# Altium integrated library Microchip Power Management Line Regulator.IntLib: 1169 symbols (part 2 of 31)
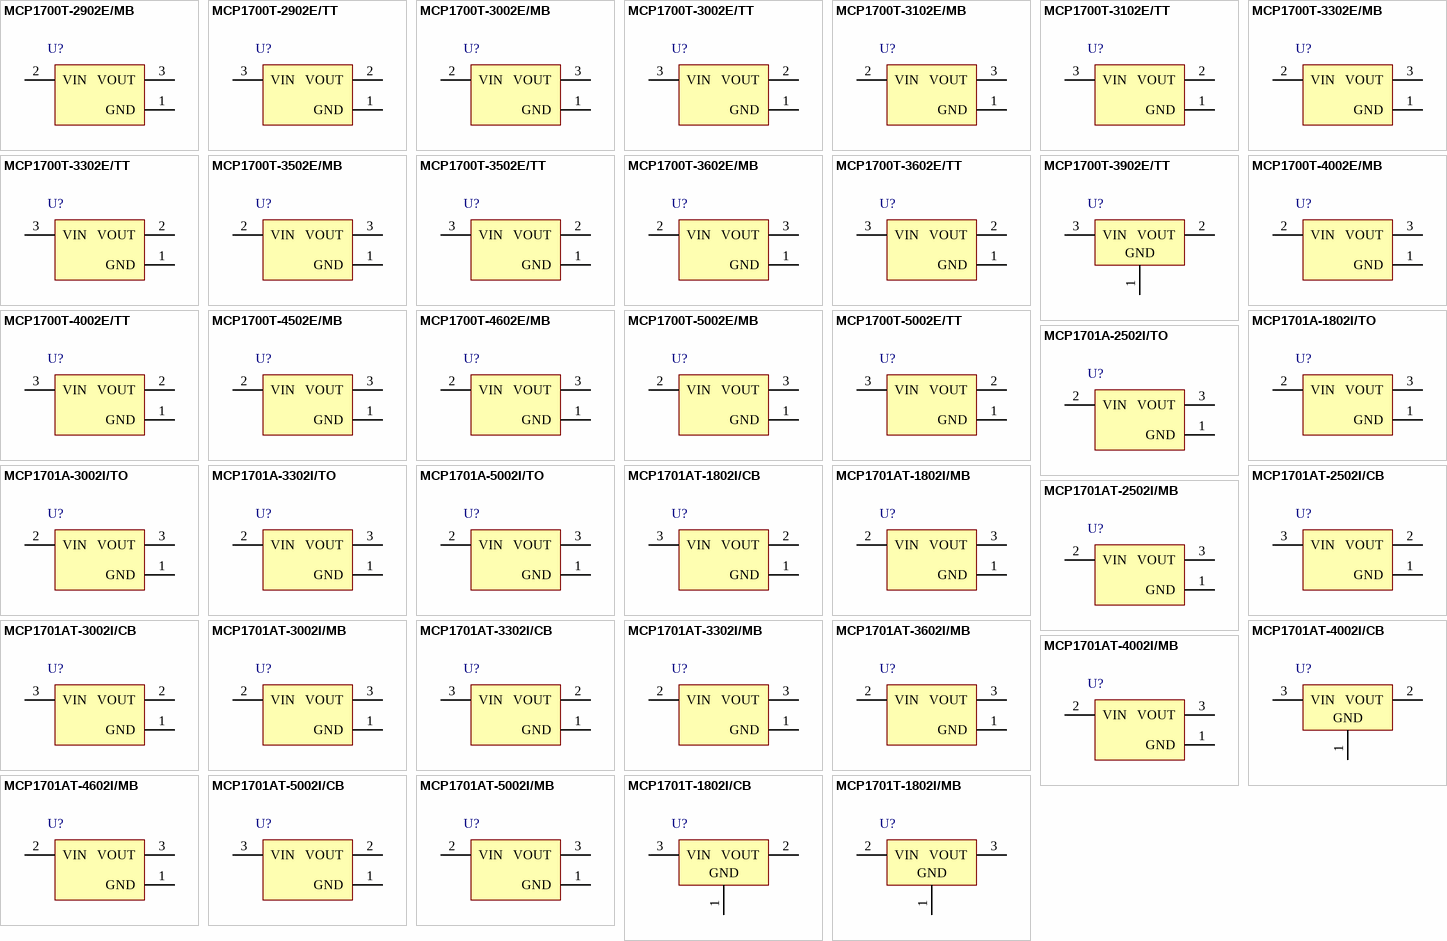
[diagram p30: symbols MCP1700T-2902E/MB to MCP1701T-1802I/MB]

## MCP1700T-2902E/MB
designator U?
Low Quiescent Current LDO, 3-Pin SOT-89, Extended Temperature, Tape and Reel; Manufacturer: Microchip; PartNumber: MCP1700T-2902E/MB; DatasheetVersion: revB, Feb-2007; PackageVersion: revBB, Aug-2009; PackageReference: SOT-89-MB3; PackageDescription: 3-Lead Plastic Small Outline Transistor Header (MB) [SOT-89]; Supplier 1: Digi-Key; Supplier Part Number 1: MCP1700T-2902E/MB-ND; Supplier 2: Mouser; Supplier Part Number 2: 579-MCP1700T-2902EMB; Mounting Technology: Surface Mount; Code_IPC: SOT89; ComponentLink1Description: Manufacturer URL; ComponentLink1URL: http://www.microchip.com/; ComponentLink2Description: Datasheet; ComponentLink2URL: http://ww1.microchip.com/downloads/en/DeviceDoc/21826b.pdf; ComponentLink3Description: Package Specification; ComponentLink3URL: http://www.microchip.com/stellent/groups/techpub_sg/documents/packagingspec/en012702.pdf
footprint SOT-89-MB3_N (SOT89, 3-Leads, Body 4.5x2.4 mm, Pitch 1.5mm, Lead Span 4.1mm, IPC Medium Density)
footprint SOT-89-MB3_L (SOT89, 3-Leads, Body 4.5x2.4 mm, Pitch 1.5mm, Lead Span 4.1mm, IPC High Density)
footprint SOT-89-MB3_M (SOT89, 3-Leads, Body 4.5x2.4 mm, Pitch 1.5mm, Lead Span 4.1mm, IPC Low Density)
pins: 1 GND (power), 2 VIN (power), 3 VOUT (power)

## MCP1700T-2902E/TT
designator U?
Low Quiescent Current LDO, 3-Pin SOT-23, Extended Temperature, Tape and Reel; Manufacturer: Microchip; PartNumber: MCP1700T-2902E/TT; DatasheetVersion: revB, Feb-2007; PackageVersion: revBB, Aug-2009; PackageReference: SOT-23-TT3; PackageDescription: 3-Lead Plastic Small Outline Transistor (TT) [SOT-23]; Supplier 1: Digi-Key; Supplier Part Number 1: MCP1700T-2902E/TT-ND; Supplier 2: Mouser; Supplier Part Number 2: 579-MCP1700T-2902ETT; Mounting Technology: Surface Mount; Code_IPC: SOT23-3; ComponentLink1Description: Manufacturer URL; ComponentLink1URL: http://www.microchip.com/; ComponentLink2Description: Datasheet; ComponentLink2URL: http://ww1.microchip.com/downloads/en/DeviceDoc/21826b.pdf; ComponentLink3Description: Package Specification; ComponentLink3URL: http://www.microchip.com/stellent/groups/techpub_sg/documents/packagingspec/en012702.pdf
footprint SOT-23-TT3_N (SOT23, 3-Leads, Body 2.9x1.3mm, Pitch 0.95mm, Lead Span 2.4mm, IPC Medium Density)
footprint SOT-23-TT3_L (SOT23, 3-Leads, Body 2.9x1.3mm, Pitch 0.95mm, Lead Span 2.4mm, IPC High Density)
footprint SOT-23-TT3_M (SOT23, 3-Leads, Body 2.9x1.3mm, Pitch 0.95mm, Lead Span 2.4mm, IPC Low Density)
pins: 1 GND (power), 2 VOUT (power), 3 VIN (power)

## MCP1700T-3002E/MB
designator U?
Low Quiescent Current LDO, 3-Pin SOT-89, Extended Temperature, Tape and Reel; Manufacturer: Microchip; PartNumber: MCP1700T-3002E/MB; DatasheetVersion: revB, Feb-2007; PackageVersion: revBB, Aug-2009; PackageReference: SOT-89-MB3; PackageDescription: 3-Lead Plastic Small Outline Transistor Header (MB) [SOT-89]; Supplier 1: Digi-Key; Supplier Part Number 1: MCP1700T-3002E/MBTR-ND; Supplier 2: Digi-Key; Supplier Part Number 2: MCP1700T-3002E/MBCT-ND; Supplier 3: Digi-Key; Supplier Part Number 3: MCP1700T-3002E/MBDKR-ND; Supplier 4: Newark; Supplier Part Number 4: 88H9814; Supplier 5: Mouser; Supplier Part Number 5: 579-MCP1700T3002E/MB; Mounting Technology: Surface Mount; Code_IPC: SOT89; ComponentLink1Description: Manufacturer URL; ComponentLink1URL: http://www.microchip.com/; ComponentLink2Description: Datasheet; ComponentLink2URL: http://ww1.microchip.com/downloads/en/DeviceDoc/21826b.pdf; ComponentLink3Description: Package Specification; ComponentLink3URL: http://www.microchip.com/stellent/groups/techpub_sg/documents/packagingspec/en012702.pdf
footprint SOT-89-MB3_N (SOT89, 3-Leads, Body 4.5x2.4 mm, Pitch 1.5mm, Lead Span 4.1mm, IPC Medium Density)
footprint SOT-89-MB3_L (SOT89, 3-Leads, Body 4.5x2.4 mm, Pitch 1.5mm, Lead Span 4.1mm, IPC High Density)
footprint SOT-89-MB3_M (SOT89, 3-Leads, Body 4.5x2.4 mm, Pitch 1.5mm, Lead Span 4.1mm, IPC Low Density)
pins: 1 GND (power), 2 VIN (power), 3 VOUT (power)

## MCP1700T-3002E/TT
designator U?
Low Quiescent Current LDO, 3-Pin SOT-23, Extended Temperature, Tape and Reel; Manufacturer: Microchip; PartNumber: MCP1700T-3002E/TT; DatasheetVersion: revB, Feb-2007; PackageVersion: revBB, Aug-2009; PackageReference: SOT-23-TT3; PackageDescription: 3-Lead Plastic Small Outline Transistor (TT) [SOT-23]; Supplier 1: Digi-Key; Supplier Part Number 1: MCP1700T-3002E/TTTR-ND; Supplier 2: Digi-Key; Supplier Part Number 2: MCP1700T-3002E/TTCT-ND; Supplier 3: Digi-Key; Supplier Part Number 3: MCP1700T-3002E/TTDKR-ND; Supplier 4: Farnell; Supplier Part Number 4: 1331482; Supplier 5: Farnell; Supplier Part Number 5: 1331482RL; Supplier 6: Newark; Supplier Part Number 6: 84R5176; Supplier 7: Newark; Supplier Part Number 7: 88H9815; Supplier 8: Mouser; Supplier Part Number 8: 579-MCP1700T3002E/TT; Mounting Technology: Surface Mount; Code_IPC: SOT23-3; ComponentLink1Description: Manufacturer URL; ComponentLink1URL: http://www.microchip.com/; ComponentLink2Description: Datasheet; ComponentLink2URL: http://ww1.microchip.com/downloads/en/DeviceDoc/21826b.pdf; ComponentLink3Description: Package Specification; ComponentLink3URL: http://www.microchip.com/stellent/groups/techpub_sg/documents/packagingspec/en012702.pdf
footprint SOT-23-TT3_N (SOT23, 3-Leads, Body 2.9x1.3mm, Pitch 0.95mm, Lead Span 2.4mm, IPC Medium Density)
footprint SOT-23-TT3_L (SOT23, 3-Leads, Body 2.9x1.3mm, Pitch 0.95mm, Lead Span 2.4mm, IPC High Density)
footprint SOT-23-TT3_M (SOT23, 3-Leads, Body 2.9x1.3mm, Pitch 0.95mm, Lead Span 2.4mm, IPC Low Density)
pins: 1 GND (power), 2 VOUT (power), 3 VIN (power)

## MCP1700T-3102E/MB
designator U?
Low Quiescent Current LDO, 3-Pin SOT-89, Extended Temperature, Tape and Reel; Manufacturer: Microchip; PartNumber: MCP1700T-3102E/MB; DatasheetVersion: revB, Feb-2007; PackageVersion: revBB, Aug-2009; PackageReference: SOT-89-MB3; PackageDescription: 3-Lead Plastic Small Outline Transistor Header (MB) [SOT-89]; Supplier 1: Digi-Key; Supplier Part Number 1: MCP1700T-3102E/MB-ND; Supplier 2: Mouser; Supplier Part Number 2: 579-MCP1700T-3102EMB; Mounting Technology: Surface Mount; Code_IPC: SOT89; ComponentLink1Description: Manufacturer URL; ComponentLink1URL: http://www.microchip.com/; ComponentLink2Description: Datasheet; ComponentLink2URL: http://ww1.microchip.com/downloads/en/DeviceDoc/21826b.pdf; ComponentLink3Description: Package Specification; ComponentLink3URL: http://www.microchip.com/stellent/groups/techpub_sg/documents/packagingspec/en012702.pdf
footprint SOT-89-MB3_N (SOT89, 3-Leads, Body 4.5x2.4 mm, Pitch 1.5mm, Lead Span 4.1mm, IPC Medium Density)
footprint SOT-89-MB3_L (SOT89, 3-Leads, Body 4.5x2.4 mm, Pitch 1.5mm, Lead Span 4.1mm, IPC High Density)
footprint SOT-89-MB3_M (SOT89, 3-Leads, Body 4.5x2.4 mm, Pitch 1.5mm, Lead Span 4.1mm, IPC Low Density)
pins: 1 GND (power), 2 VIN (power), 3 VOUT (power)

## MCP1700T-3102E/TT
designator U?
Low Quiescent Current LDO, 3-Pin SOT-23, Extended Temperature, Tape and Reel; Manufacturer: Microchip; PartNumber: MCP1700T-3102E/TT; DatasheetVersion: revB, Feb-2007; PackageVersion: revBB, Aug-2009; PackageReference: SOT-23-TT3; PackageDescription: 3-Lead Plastic Small Outline Transistor (TT) [SOT-23]; Supplier 1: Digi-Key; Supplier Part Number 1: MCP1700T-3102E/TT-ND; Supplier 2: Newark; Supplier Part Number 2: 23T2762; Supplier 3: Mouser; Supplier Part Number 3: 579-MCP1700T-3102ETT; Mounting Technology: Surface Mount; Code_IPC: SOT23-3; ComponentLink1Description: Manufacturer URL; ComponentLink1URL: http://www.microchip.com/; ComponentLink2Description: Datasheet; ComponentLink2URL: http://ww1.microchip.com/downloads/en/DeviceDoc/21826b.pdf; ComponentLink3Description: Package Specification; ComponentLink3URL: http://www.microchip.com/stellent/groups/techpub_sg/documents/packagingspec/en012702.pdf
footprint SOT-23-TT3_N (SOT23, 3-Leads, Body 2.9x1.3mm, Pitch 0.95mm, Lead Span 2.4mm, IPC Medium Density)
footprint SOT-23-TT3_L (SOT23, 3-Leads, Body 2.9x1.3mm, Pitch 0.95mm, Lead Span 2.4mm, IPC High Density)
footprint SOT-23-TT3_M (SOT23, 3-Leads, Body 2.9x1.3mm, Pitch 0.95mm, Lead Span 2.4mm, IPC Low Density)
pins: 1 GND (power), 2 VOUT (power), 3 VIN (power)

## MCP1700T-3302E/MB
designator U?
Low Quiescent Current LDO, 3-Pin SOT-89, Extended Temperature, Tape and Reel; Manufacturer: Microchip; PartNumber: MCP1700T-3302E/MB; DatasheetVersion: revB, Feb-2007; PackageVersion: revBB, Aug-2009; PackageReference: SOT-89-MB3; PackageDescription: 3-Lead Plastic Small Outline Transistor Header (MB) [SOT-89]; Supplier 1: Digi-Key; Supplier Part Number 1: MCP1700T3302EMBTR-ND; Supplier 2: Digi-Key; Supplier Part Number 2: MCP1700T3302EMBCT-ND; Supplier 3: Digi-Key; Supplier Part Number 3: MCP1700T3302EMBDKR-ND; Supplier 4: Farnell; Supplier Part Number 4: 1439380; Supplier 5: Farnell; Supplier Part Number 5: 1439380RL; Supplier 6: Newark; Supplier Part Number 6: 88H9816; Supplier 7: Mouser; Supplier Part Number 7: 579-MCP1700T3302E/MB; Mounting Technology: Surface Mount; Code_IPC: SOT89; ComponentLink1Description: Manufacturer URL; ComponentLink1URL: http://www.microchip.com/; ComponentLink2Description: Datasheet; ComponentLink2URL: http://ww1.microchip.com/downloads/en/DeviceDoc/21826b.pdf; ComponentLink3Description: Package Specification; ComponentLink3URL: http://www.microchip.com/stellent/groups/techpub_sg/documents/packagingspec/en012702.pdf
footprint SOT-89-MB3_N (SOT89, 3-Leads, Body 4.5x2.4 mm, Pitch 1.5mm, Lead Span 4.1mm, IPC Medium Density)
footprint SOT-89-MB3_L (SOT89, 3-Leads, Body 4.5x2.4 mm, Pitch 1.5mm, Lead Span 4.1mm, IPC High Density)
footprint SOT-89-MB3_M (SOT89, 3-Leads, Body 4.5x2.4 mm, Pitch 1.5mm, Lead Span 4.1mm, IPC Low Density)
pins: 1 GND (power), 2 VIN (power), 3 VOUT (power)

## MCP1700T-3302E/TT
designator U?
Low Quiescent Current LDO, 3-Pin SOT-23, Extended Temperature, Tape and Reel; Manufacturer: Microchip; PartNumber: MCP1700T-3302E/TT; DatasheetVersion: revB, Feb-2007; PackageVersion: revBB, Aug-2009; PackageReference: SOT-23-TT3; PackageDescription: 3-Lead Plastic Small Outline Transistor (TT) [SOT-23]; Supplier 1: Digi-Key; Supplier Part Number 1: MCP1700T3302ETTTR-ND; Supplier 2: Digi-Key; Supplier Part Number 2: MCP1700T3302ETTCT-ND; Supplier 3: Digi-Key; Supplier Part Number 3: MCP1700T3302ETTDKR-ND; Supplier 4: Farnell; Supplier Part Number 4: 1296592; Supplier 5: Farnell; Supplier Part Number 5: 1296592RL; Supplier 6: Farnell; Supplier Part Number 6: 2133944; Supplier 7: Newark; Supplier Part Number 7: 88H9817; Supplier 8: Newark; Supplier Part Number 8: 23R8107; Supplier 9: Mouser; Supplier Part Number 9: 579-MCP1700T3302E/TT; Mounting Technology: Surface Mount; Code_IPC: SOT23-3; ComponentLink1Description: Manufacturer URL; ComponentLink1URL: http://www.microchip.com/; ComponentLink2Description: Datasheet; ComponentLink2URL: http://ww1.microchip.com/downloads/en/DeviceDoc/21826b.pdf; ComponentLink3Description: Package Specification; ComponentLink3URL: http://www.microchip.com/stellent/groups/techpub_sg/documents/packagingspec/en012702.pdf
footprint SOT-23-TT3_N (SOT23, 3-Leads, Body 2.9x1.3mm, Pitch 0.95mm, Lead Span 2.4mm, IPC Medium Density)
footprint SOT-23-TT3_L (SOT23, 3-Leads, Body 2.9x1.3mm, Pitch 0.95mm, Lead Span 2.4mm, IPC High Density)
footprint SOT-23-TT3_M (SOT23, 3-Leads, Body 2.9x1.3mm, Pitch 0.95mm, Lead Span 2.4mm, IPC Low Density)
pins: 1 GND (power), 2 VOUT (power), 3 VIN (power)

## MCP1700T-3502E/MB
designator U?
Low Quiescent Current LDO, 3-Pin SOT-89, Extended Temperature, Tape and Reel; Manufacturer: Microchip; PartNumber: MCP1700T-3502E/MB; DatasheetVersion: revB, Feb-2007; PackageVersion: revBB, Aug-2009; PackageReference: SOT-89-MB3; PackageDescription: 3-Lead Plastic Small Outline Transistor Header (MB) [SOT-89]; Supplier 1: Digi-Key; Supplier Part Number 1: MCP1700T-3502E/MB-ND; Supplier 2: Mouser; Supplier Part Number 2: 579-MCP1700T-3502EMB; Mounting Technology: Surface Mount; Code_IPC: SOT89; ComponentLink1Description: Manufacturer URL; ComponentLink1URL: http://www.microchip.com/; ComponentLink2Description: Datasheet; ComponentLink2URL: http://ww1.microchip.com/downloads/en/DeviceDoc/21826b.pdf; ComponentLink3Description: Package Specification; ComponentLink3URL: http://www.microchip.com/stellent/groups/techpub_sg/documents/packagingspec/en012702.pdf
footprint SOT-89-MB3_N (SOT89, 3-Leads, Body 4.5x2.4 mm, Pitch 1.5mm, Lead Span 4.1mm, IPC Medium Density)
footprint SOT-89-MB3_L (SOT89, 3-Leads, Body 4.5x2.4 mm, Pitch 1.5mm, Lead Span 4.1mm, IPC High Density)
footprint SOT-89-MB3_M (SOT89, 3-Leads, Body 4.5x2.4 mm, Pitch 1.5mm, Lead Span 4.1mm, IPC Low Density)
pins: 1 GND (power), 2 VIN (power), 3 VOUT (power)

## MCP1700T-3502E/TT
designator U?
Low Quiescent Current LDO, 3-Pin SOT-23, Extended Temperature, Tape and Reel; Manufacturer: Microchip; PartNumber: MCP1700T-3502E/TT; DatasheetVersion: revB, Feb-2007; PackageVersion: revBB, Aug-2009; PackageReference: SOT-23-TT3; PackageDescription: 3-Lead Plastic Small Outline Transistor (TT) [SOT-23]; Supplier 1: Digi-Key; Supplier Part Number 1: MCP1700T-3502E/TT-ND; Supplier 2: Mouser; Supplier Part Number 2: 579-MCP1700T-3502ETT; Mounting Technology: Surface Mount; Code_IPC: SOT23-3; ComponentLink1Description: Manufacturer URL; ComponentLink1URL: http://www.microchip.com/; ComponentLink2Description: Datasheet; ComponentLink2URL: http://ww1.microchip.com/downloads/en/DeviceDoc/21826b.pdf; ComponentLink3Description: Package Specification; ComponentLink3URL: http://www.microchip.com/stellent/groups/techpub_sg/documents/packagingspec/en012702.pdf
footprint SOT-23-TT3_N (SOT23, 3-Leads, Body 2.9x1.3mm, Pitch 0.95mm, Lead Span 2.4mm, IPC Medium Density)
footprint SOT-23-TT3_L (SOT23, 3-Leads, Body 2.9x1.3mm, Pitch 0.95mm, Lead Span 2.4mm, IPC High Density)
footprint SOT-23-TT3_M (SOT23, 3-Leads, Body 2.9x1.3mm, Pitch 0.95mm, Lead Span 2.4mm, IPC Low Density)
pins: 1 GND (power), 2 VOUT (power), 3 VIN (power)

## MCP1700T-3602E/MB
designator U?
Low Quiescent Current LDO, 3-Pin SOT-89, Extended Temperature, Tape and Reel; Manufacturer: Microchip; PartNumber: MCP1700T-3602E/MB; DatasheetVersion: revB, Feb-2007; PackageVersion: revBB, Aug-2009; PackageReference: SOT-89-MB3; PackageDescription: 3-Lead Plastic Small Outline Transistor Header (MB) [SOT-89]; Supplier 1: Digi-Key; Supplier Part Number 1: MCP1700T-3602E/MB-ND; Supplier 2: Mouser; Supplier Part Number 2: 579-MCP1700T-3602EMB; Mounting Technology: Surface Mount; Code_IPC: SOT89; ComponentLink1Description: Manufacturer URL; ComponentLink1URL: http://www.microchip.com/; ComponentLink2Description: Datasheet; ComponentLink2URL: http://ww1.microchip.com/downloads/en/DeviceDoc/21826b.pdf; ComponentLink3Description: Package Specification; ComponentLink3URL: http://www.microchip.com/stellent/groups/techpub_sg/documents/packagingspec/en012702.pdf
footprint SOT-89-MB3_N (SOT89, 3-Leads, Body 4.5x2.4 mm, Pitch 1.5mm, Lead Span 4.1mm, IPC Medium Density)
footprint SOT-89-MB3_L (SOT89, 3-Leads, Body 4.5x2.4 mm, Pitch 1.5mm, Lead Span 4.1mm, IPC High Density)
footprint SOT-89-MB3_M (SOT89, 3-Leads, Body 4.5x2.4 mm, Pitch 1.5mm, Lead Span 4.1mm, IPC Low Density)
pins: 1 GND (power), 2 VIN (power), 3 VOUT (power)

## MCP1700T-3602E/TT
designator U?
Low Quiescent Current LDO, 3-Pin SOT-23, Extended Temperature, Tape and Reel; Manufacturer: Microchip; PartNumber: MCP1700T-3602E/TT; DatasheetVersion: revB, Feb-2007; PackageVersion: revBB, Aug-2009; PackageReference: SOT-23-TT3; PackageDescription: 3-Lead Plastic Small Outline Transistor (TT) [SOT-23]; Supplier 1: Digi-Key; Supplier Part Number 1: MCP1700T-3602E/TT-ND; Supplier 2: Mouser; Supplier Part Number 2: 579-MCP1700T-3602ETT; Mounting Technology: Surface Mount; Code_IPC: SOT23-3; ComponentLink1Description: Manufacturer URL; ComponentLink1URL: http://www.microchip.com/; ComponentLink2Description: Datasheet; ComponentLink2URL: http://ww1.microchip.com/downloads/en/DeviceDoc/21826b.pdf; ComponentLink3Description: Package Specification; ComponentLink3URL: http://www.microchip.com/stellent/groups/techpub_sg/documents/packagingspec/en012702.pdf
footprint SOT-23-TT3_N (SOT23, 3-Leads, Body 2.9x1.3mm, Pitch 0.95mm, Lead Span 2.4mm, IPC Medium Density)
footprint SOT-23-TT3_L (SOT23, 3-Leads, Body 2.9x1.3mm, Pitch 0.95mm, Lead Span 2.4mm, IPC High Density)
footprint SOT-23-TT3_M (SOT23, 3-Leads, Body 2.9x1.3mm, Pitch 0.95mm, Lead Span 2.4mm, IPC Low Density)
pins: 1 GND (power), 2 VOUT (power), 3 VIN (power)

## MCP1700T-3902E/TT
designator U?
Low Quiescent Current LDO, -40 to 125 degC, 3-pin SOT-23 (TT3), Tape and Reel; Manufacturer: Microchip; PartNumber: MCP1700T-3902E/TT; DatasheetVersion: Rev. B; PackageVersion: C04-104B; PackageReference: SOT-23-TT3; PackageDescription: 3-Lead Plastic Small Outline Transistor, 2.9 x 1.3 mm Body, 0.95 mm Pitch; Mounting Technology: Surface Mount; ComponentLink1Description: Manufacturer URL; ComponentLink1URL: http://www.microchip.com; ComponentLink2Description: Datasheet; ComponentLink2URL: http://ww1.microchip.com/downloads/en/DeviceDoc/21826b.pdf; ComponentLink3Description: Package Specification; ComponentLink3URL: http://www.microchip.com/stellent/groups/techpub_sg/documents/packagingspec/en012702.pdf; ComponentLink4Description: Product URL; ComponentLink4URL: http://www.microchip.com/MCP1700
footprint MCHP-SOT-23-TT3_N (SOT23, 3-Leads, Body 2.86x1.28mm, Pitch 0.95mm, IPC Medium Density)
footprint MCHP-SOT-23-TT3_L (SOT23, 3-Leads, Body 2.86x1.28mm, Pitch 0.95mm, IPC High Density)
footprint MCHP-SOT-23-TT3_M (SOT23, 3-Leads, Body 2.86x1.28mm, Pitch 0.95mm, IPC Low Density)
pins: 1 GND (power) "Ground Terminal", 2 VOUT (power) "Regulated Output Voltage", 3 VIN (power) "Unregulated Input Voltage"

## MCP1700T-4002E/MB
designator U?
Low Quiescent Current LDO, 3-Pin SOT-89, Extended Temperature, Tape and Reel; Manufacturer: Microchip; PartNumber: MCP1700T-4002E/MB; DatasheetVersion: revB, Feb-2007; PackageVersion: revBB, Aug-2009; PackageReference: SOT-89-MB3; PackageDescription: 3-Lead Plastic Small Outline Transistor Header (MB) [SOT-89]; Supplier 1: Digi-Key; Supplier Part Number 1: MCP1700T-4002E/MB-ND; Supplier 2: Mouser; Supplier Part Number 2: 579-MCP1700T-4002EMB; Mounting Technology: Surface Mount; Code_IPC: SOT89; ComponentLink1Description: Manufacturer URL; ComponentLink1URL: http://www.microchip.com/; ComponentLink2Description: Datasheet; ComponentLink2URL: http://ww1.microchip.com/downloads/en/DeviceDoc/21826b.pdf; ComponentLink3Description: Package Specification; ComponentLink3URL: http://www.microchip.com/stellent/groups/techpub_sg/documents/packagingspec/en012702.pdf
footprint SOT-89-MB3_N (SOT89, 3-Leads, Body 4.5x2.4 mm, Pitch 1.5mm, Lead Span 4.1mm, IPC Medium Density)
footprint SOT-89-MB3_L (SOT89, 3-Leads, Body 4.5x2.4 mm, Pitch 1.5mm, Lead Span 4.1mm, IPC High Density)
footprint SOT-89-MB3_M (SOT89, 3-Leads, Body 4.5x2.4 mm, Pitch 1.5mm, Lead Span 4.1mm, IPC Low Density)
pins: 1 GND (power), 2 VIN (power), 3 VOUT (power)

## MCP1700T-4002E/TT
designator U?
Low Quiescent Current LDO, 3-Pin SOT-23, Extended Temperature, Tape and Reel; Manufacturer: Microchip; PartNumber: MCP1700T-4002E/TT; DatasheetVersion: revB, Feb-2007; PackageVersion: revBB, Aug-2009; PackageReference: SOT-23-TT3; PackageDescription: 3-Lead Plastic Small Outline Transistor (TT) [SOT-23]; Supplier 1: Digi-Key; Supplier Part Number 1: MCP1700T-4002E/TT-ND; Supplier 2: Mouser; Supplier Part Number 2: 579-MCP1700T-4002ETT; Mounting Technology: Surface Mount; Code_IPC: SOT23-3; ComponentLink1Description: Manufacturer URL; ComponentLink1URL: http://www.microchip.com/; ComponentLink2Description: Datasheet; ComponentLink2URL: http://ww1.microchip.com/downloads/en/DeviceDoc/21826b.pdf; ComponentLink3Description: Package Specification; ComponentLink3URL: http://www.microchip.com/stellent/groups/techpub_sg/documents/packagingspec/en012702.pdf
footprint SOT-23-TT3_N (SOT23, 3-Leads, Body 2.9x1.3mm, Pitch 0.95mm, Lead Span 2.4mm, IPC Medium Density)
footprint SOT-23-TT3_L (SOT23, 3-Leads, Body 2.9x1.3mm, Pitch 0.95mm, Lead Span 2.4mm, IPC High Density)
footprint SOT-23-TT3_M (SOT23, 3-Leads, Body 2.9x1.3mm, Pitch 0.95mm, Lead Span 2.4mm, IPC Low Density)
pins: 1 GND (power), 2 VOUT (power), 3 VIN (power)

## MCP1700T-4502E/MB
designator U?
Low Quiescent Current LDO, 3-Pin SOT-89, Extended Temperature, Tape and Reel; Manufacturer: Microchip; PartNumber: MCP1700T-4502E/MB; DatasheetVersion: revB, Feb-2007; PackageVersion: revBB, Aug-2009; PackageReference: SOT-89-MB3; PackageDescription: 3-Lead Plastic Small Outline Transistor Header (MB) [SOT-89]; Supplier 1: Digi-Key; Supplier Part Number 1: MCP1700T-4502E/MB-ND; Supplier 2: Mouser; Supplier Part Number 2: 579-MCP1700T-4502EMB; Mounting Technology: Surface Mount; Code_IPC: SOT89; ComponentLink1Description: Manufacturer URL; ComponentLink1URL: http://www.microchip.com/; ComponentLink2Description: Datasheet; ComponentLink2URL: http://ww1.microchip.com/downloads/en/DeviceDoc/21826b.pdf; ComponentLink3Description: Package Specification; ComponentLink3URL: http://www.microchip.com/stellent/groups/techpub_sg/documents/packagingspec/en012702.pdf
footprint SOT-89-MB3_N (SOT89, 3-Leads, Body 4.5x2.4 mm, Pitch 1.5mm, Lead Span 4.1mm, IPC Medium Density)
footprint SOT-89-MB3_L (SOT89, 3-Leads, Body 4.5x2.4 mm, Pitch 1.5mm, Lead Span 4.1mm, IPC High Density)
footprint SOT-89-MB3_M (SOT89, 3-Leads, Body 4.5x2.4 mm, Pitch 1.5mm, Lead Span 4.1mm, IPC Low Density)
pins: 1 GND (power), 2 VIN (power), 3 VOUT (power)

## MCP1700T-4602E/MB
designator U?
Low Quiescent Current LDO, 3-Pin SOT-89, Extended Temperature, Tape and Reel; Manufacturer: Microchip; PartNumber: MCP1700T-4602E/MB; DatasheetVersion: revB, Feb-2007; PackageVersion: revBB, Aug-2009; PackageReference: SOT-89-MB3; PackageDescription: 3-Lead Plastic Small Outline Transistor Header (MB) [SOT-89]; Supplier 1: Digi-Key; Supplier Part Number 1: MCP1700T-4602E/MB-ND; Supplier 2: Mouser; Supplier Part Number 2: 579-MCP1700T-4602EMB; Mounting Technology: Surface Mount; Code_IPC: SOT89; ComponentLink1Description: Manufacturer URL; ComponentLink1URL: http://www.microchip.com/; ComponentLink2Description: Datasheet; ComponentLink2URL: http://ww1.microchip.com/downloads/en/DeviceDoc/21826b.pdf; ComponentLink3Description: Package Specification; ComponentLink3URL: http://www.microchip.com/stellent/groups/techpub_sg/documents/packagingspec/en012702.pdf
footprint SOT-89-MB3_N (SOT89, 3-Leads, Body 4.5x2.4 mm, Pitch 1.5mm, Lead Span 4.1mm, IPC Medium Density)
footprint SOT-89-MB3_L (SOT89, 3-Leads, Body 4.5x2.4 mm, Pitch 1.5mm, Lead Span 4.1mm, IPC High Density)
footprint SOT-89-MB3_M (SOT89, 3-Leads, Body 4.5x2.4 mm, Pitch 1.5mm, Lead Span 4.1mm, IPC Low Density)
pins: 1 GND (power), 2 VIN (power), 3 VOUT (power)

## MCP1700T-5002E/MB
designator U?
Low Quiescent Current LDO, 3-Pin SOT-89, Extended Temperature, Tape and Reel; Manufacturer: Microchip; PartNumber: MCP1700T-5002E/MB; DatasheetVersion: revB, Feb-2007; PackageVersion: revBB, Aug-2009; PackageReference: SOT-89-MB3; PackageDescription: 3-Lead Plastic Small Outline Transistor Header (MB) [SOT-89]; Supplier 1: Digi-Key; Supplier Part Number 1: MCP1700T5002EMBTR-ND; Supplier 2: Digi-Key; Supplier Part Number 2: MCP1700T5002EMBCT-ND; Supplier 3: Digi-Key; Supplier Part Number 3: MCP1700T5002EMBDKR-ND; Supplier 4: Newark; Supplier Part Number 4: 88H9818; Supplier 5: Mouser; Supplier Part Number 5: 579-MCP1700T5002E/MB; Mounting Technology: Surface Mount; Code_IPC: SOT89; ComponentLink1Description: Manufacturer URL; ComponentLink1URL: http://www.microchip.com/; ComponentLink2Description: Datasheet; ComponentLink2URL: http://ww1.microchip.com/downloads/en/DeviceDoc/21826b.pdf; ComponentLink3Description: Package Specification; ComponentLink3URL: http://www.microchip.com/stellent/groups/techpub_sg/documents/packagingspec/en012702.pdf
footprint SOT-89-MB3_N (SOT89, 3-Leads, Body 4.5x2.4 mm, Pitch 1.5mm, Lead Span 4.1mm, IPC Medium Density)
footprint SOT-89-MB3_L (SOT89, 3-Leads, Body 4.5x2.4 mm, Pitch 1.5mm, Lead Span 4.1mm, IPC High Density)
footprint SOT-89-MB3_M (SOT89, 3-Leads, Body 4.5x2.4 mm, Pitch 1.5mm, Lead Span 4.1mm, IPC Low Density)
pins: 1 GND (power), 2 VIN (power), 3 VOUT (power)

## MCP1700T-5002E/TT
designator U?
Low Quiescent Current LDO, 3-Pin SOT-23, Extended Temperature, Tape and Reel; Manufacturer: Microchip; PartNumber: MCP1700T-5002E/TT; DatasheetVersion: revB, Feb-2007; PackageVersion: revBB, Aug-2009; PackageReference: SOT-23-TT3; PackageDescription: 3-Lead Plastic Small Outline Transistor (TT) [SOT-23]; Supplier 1: Digi-Key; Supplier Part Number 1: MCP1700T5002ETTTR-ND; Supplier 2: Digi-Key; Supplier Part Number 2: MCP1700T5002ETTCT-ND; Supplier 3: Digi-Key; Supplier Part Number 3: MCP1700T5002ETTDKR-ND; Supplier 4: Farnell; Supplier Part Number 4: 1296593; Supplier 5: Farnell; Supplier Part Number 5: 1296593RL; Supplier 6: Newark; Supplier Part Number 6: 88H9819; Supplier 7: Mouser; Supplier Part Number 7: 579-MCP1700T5002E/TT; Mounting Technology: Surface Mount; Code_IPC: SOT23-3; ComponentLink1Description: Manufacturer URL; ComponentLink1URL: http://www.microchip.com/; ComponentLink2Description: Datasheet; ComponentLink2URL: http://ww1.microchip.com/downloads/en/DeviceDoc/21826b.pdf; ComponentLink3Description: Package Specification; ComponentLink3URL: http://www.microchip.com/stellent/groups/techpub_sg/documents/packagingspec/en012702.pdf
footprint SOT-23-TT3_N (SOT23, 3-Leads, Body 2.9x1.3mm, Pitch 0.95mm, Lead Span 2.4mm, IPC Medium Density)
footprint SOT-23-TT3_L (SOT23, 3-Leads, Body 2.9x1.3mm, Pitch 0.95mm, Lead Span 2.4mm, IPC High Density)
footprint SOT-23-TT3_M (SOT23, 3-Leads, Body 2.9x1.3mm, Pitch 0.95mm, Lead Span 2.4mm, IPC Low Density)
pins: 1 GND (power), 2 VOUT (power), 3 VIN (power)

## MCP1701A-1802I/TO
designator U?
2 µA Low-Dropout Positive Voltage Regulator, 3-Pin TO-92, Industrial TemperatureBAG; Manufacturer: Microchip; PartNumber: MCP1701A-1802I/TO; DatasheetVersion: revC, Feb-2007; PackageVersion: revBB, Aug-2009; PackageReference: TO-92-TO3; PackageDescription: 3-Lead Plastic Transistor Outline (TO) [TO-92]; Supplier 1: Digi-Key; Supplier Part Number 1: MCP1701A-1802I/TO-ND; Supplier 2: Mouser; Supplier Part Number 2: 579-MCP1701A1802I/TO; Mounting Technology: Through Hole; ComponentLink1Description: Manufacturer URL; ComponentLink1URL: http://www.microchip.com/; ComponentLink2Description: Datasheet; ComponentLink2URL: http://ww1.microchip.com/downloads/en/DeviceDoc/21991c.pdf; ComponentLink3Description: Package Specification; ComponentLink3URL: http://www.microchip.com/stellent/groups/techpub_sg/documents/packagingspec/en012702.pdf
footprint TO-92-TO3 (TO, Flat Index; 3 In-Line, Axial Leads; Body Dia. 4.8mm; Leads 0.56 x 0.53 mm (max))
pins: 1 GND (power), 2 VIN (power), 3 VOUT (power)

## MCP1701A-2502I/TO
designator U?
2 µA Low-Dropout Positive Voltage Regulator, 3-Pin TO-92, Industrial TemperatureBAG; Manufacturer: Microchip; PartNumber: MCP1701A-2502I/TO; DatasheetVersion: revC, Feb-2007; PackageVersion: revBB, Aug-2009; PackageReference: TO-92-TO3; PackageDescription: 3-Lead Plastic Transistor Outline (TO) [TO-92]; Supplier 1: Digi-Key; Supplier Part Number 1: MCP1701A-2502I/TO-ND; Supplier 2: Mouser; Supplier Part Number 2: 579-MCP1701A2502I/TO; Mounting Technology: Through Hole; ComponentLink1Description: Manufacturer URL; ComponentLink1URL: http://www.microchip.com/; ComponentLink2Description: Datasheet; ComponentLink2URL: http://ww1.microchip.com/downloads/en/DeviceDoc/21991c.pdf; ComponentLink3Description: Package Specification; ComponentLink3URL: http://www.microchip.com/stellent/groups/techpub_sg/documents/packagingspec/en012702.pdf
footprint TO-92-TO3 (TO, Flat Index; 3 In-Line, Axial Leads; Body Dia. 4.8mm; Leads 0.56 x 0.53 mm (max))
pins: 1 GND (power), 2 VIN (power), 3 VOUT (power)

## MCP1701A-3002I/TO
designator U?
2 µA Low-Dropout Positive Voltage Regulator, 3-Pin TO-92, Industrial TemperatureBAG; Manufacturer: Microchip; PartNumber: MCP1701A-3002I/TO; DatasheetVersion: revC, Feb-2007; PackageVersion: revBB, Aug-2009; PackageReference: TO-92-TO3; PackageDescription: 3-Lead Plastic Transistor Outline (TO) [TO-92]; Supplier 1: Digi-Key; Supplier Part Number 1: MCP1701A-3002I/TO-ND; Supplier 2: Mouser; Supplier Part Number 2: 579-MCP1701A3002I/TO; Mounting Technology: Through Hole; ComponentLink1Description: Manufacturer URL; ComponentLink1URL: http://www.microchip.com/; ComponentLink2Description: Datasheet; ComponentLink2URL: http://ww1.microchip.com/downloads/en/DeviceDoc/21991c.pdf; ComponentLink3Description: Package Specification; ComponentLink3URL: http://www.microchip.com/stellent/groups/techpub_sg/documents/packagingspec/en012702.pdf
footprint TO-92-TO3 (TO, Flat Index; 3 In-Line, Axial Leads; Body Dia. 4.8mm; Leads 0.56 x 0.53 mm (max))
pins: 1 GND (power), 2 VIN (power), 3 VOUT (power)

## MCP1701A-3302I/TO
designator U?
2 µA Low-Dropout Positive Voltage Regulator, 3-Pin TO-92, Industrial TemperatureBAG; Manufacturer: Microchip; PartNumber: MCP1701A-3302I/TO; DatasheetVersion: revC, Feb-2007; PackageVersion: revBB, Aug-2009; PackageReference: TO-92-TO3; PackageDescription: 3-Lead Plastic Transistor Outline (TO) [TO-92]; Supplier 1: Digi-Key; Supplier Part Number 1: MCP1701A-3302I/TO-ND; Supplier 2: Mouser; Supplier Part Number 2: 579-MCP1701A3302I/TO; Mounting Technology: Through Hole; ComponentLink1Description: Manufacturer URL; ComponentLink1URL: http://www.microchip.com/; ComponentLink2Description: Datasheet; ComponentLink2URL: http://ww1.microchip.com/downloads/en/DeviceDoc/21991c.pdf; ComponentLink3Description: Package Specification; ComponentLink3URL: http://www.microchip.com/stellent/groups/techpub_sg/documents/packagingspec/en012702.pdf
footprint TO-92-TO3 (TO, Flat Index; 3 In-Line, Axial Leads; Body Dia. 4.8mm; Leads 0.56 x 0.53 mm (max))
pins: 1 GND (power), 2 VIN (power), 3 VOUT (power)

## MCP1701A-5002I/TO
designator U?
2 µA Low-Dropout Positive Voltage Regulator, 3-Pin TO-92, Industrial TemperatureBAG; Manufacturer: Microchip; PartNumber: MCP1701A-5002I/TO; DatasheetVersion: revC, Feb-2007; PackageVersion: revBB, Aug-2009; PackageReference: TO-92-TO3; PackageDescription: 3-Lead Plastic Transistor Outline (TO) [TO-92]; Supplier 1: Digi-Key; Supplier Part Number 1: MCP1701A-5002I/TO-ND; Supplier 2: Mouser; Supplier Part Number 2: 579-MCP1701A5002I/TO; Mounting Technology: Through Hole; ComponentLink1Description: Manufacturer URL; ComponentLink1URL: http://www.microchip.com/; ComponentLink2Description: Datasheet; ComponentLink2URL: http://ww1.microchip.com/downloads/en/DeviceDoc/21991c.pdf; ComponentLink3Description: Package Specification; ComponentLink3URL: http://www.microchip.com/stellent/groups/techpub_sg/documents/packagingspec/en012702.pdf
footprint TO-92-TO3 (TO, Flat Index; 3 In-Line, Axial Leads; Body Dia. 4.8mm; Leads 0.56 x 0.53 mm (max))
pins: 1 GND (power), 2 VIN (power), 3 VOUT (power)

## MCP1701AT-1802I/CB
designator U?
2 µA Low-Dropout Positive Voltage Regulator, 3-Pin SOT-23A, Industrial Temperature, Tape and Reel; Manufacturer: Microchip; PartNumber: MCP1701AT-1802I/CB; DatasheetVersion: revC, Feb-2007; PackageVersion: revBB, Aug-2009; PackageReference: SOT-23A-CB3; PackageDescription: 3-Lead Plastic Small Outline Transistor (CB) [SOT-23A]; Supplier 1: Digi-Key; Supplier Part Number 1: MCP1701AT-1802I/CB-ND; Supplier 2: Mouser; Supplier Part Number 2: 579-MCP1701AT1802ICB; Mounting Technology: Surface Mount; ComponentLink1Description: Manufacturer URL; ComponentLink1URL: http://www.microchip.com/; ComponentLink2Description: Datasheet; ComponentLink2URL: http://ww1.microchip.com/downloads/en/DeviceDoc/21991c.pdf; ComponentLink3Description: Package Specification; ComponentLink3URL: http://www.microchip.com/stellent/groups/techpub_sg/documents/packagingspec/en012702.pdf
footprint SOT-23A-CB3_N (SOT346, 3-Leads, Body 2.9x1.5mm, Pitch 0.95mm, Lead Span 2.6mm, IPC Medium Density)
footprint SOT-23A-CB3_L (SOT346, 3-Leads, Body 2.9x1.5mm, Pitch 0.95mm, Lead Span 2.6mm, IPC High Density)
footprint SOT-23A-CB3_M (SOT346, 3-Leads, Body 2.9x1.5mm, Pitch 0.95mm, Lead Span 2.6mm, IPC Low Density)
pins: 1 GND (power), 2 VOUT (power), 3 VIN (power)

## MCP1701AT-1802I/MB
designator U?
2 µA Low-Dropout Positive Voltage Regulator, 3-Pin SOT-89, Industrial Temperature, Tape and Reel; Manufacturer: Microchip; PartNumber: MCP1701AT-1802I/MB; DatasheetVersion: revC, Feb-2007; PackageVersion: revBB, Aug-2009; PackageReference: SOT-89-MB3; PackageDescription: 3-Lead Plastic Small Outline Transistor Header (MB) [SOT-89]; Supplier 1: Digi-Key; Supplier Part Number 1: MCP1701AT-1802I/MB-ND; Supplier 2: Mouser; Supplier Part Number 2: 579-MCP1701AT1802IMB; Mounting Technology: Surface Mount; Code_IPC: SOT89; ComponentLink1Description: Manufacturer URL; ComponentLink1URL: http://www.microchip.com/; ComponentLink2Description: Datasheet; ComponentLink2URL: http://ww1.microchip.com/downloads/en/DeviceDoc/21991c.pdf; ComponentLink3Description: Package Specification; ComponentLink3URL: http://www.microchip.com/stellent/groups/techpub_sg/documents/packagingspec/en012702.pdf
footprint SOT-89-MB3_N (SOT89, 3-Leads, Body 4.5x2.4 mm, Pitch 1.5mm, Lead Span 4.1mm, IPC Medium Density)
footprint SOT-89-MB3_L (SOT89, 3-Leads, Body 4.5x2.4 mm, Pitch 1.5mm, Lead Span 4.1mm, IPC High Density)
footprint SOT-89-MB3_M (SOT89, 3-Leads, Body 4.5x2.4 mm, Pitch 1.5mm, Lead Span 4.1mm, IPC Low Density)
pins: 1 GND (power), 2 VIN (power), 3 VOUT (power)

## MCP1701AT-2502I/CB
designator U?
2 µA Low-Dropout Positive Voltage Regulator, 3-Pin SOT-23A, Industrial Temperature, Tape and Reel; Manufacturer: Microchip; PartNumber: MCP1701AT-2502I/CB; DatasheetVersion: revC, Feb-2007; PackageVersion: revBB, Aug-2009; PackageReference: SOT-23A-CB3; PackageDescription: 3-Lead Plastic Small Outline Transistor (CB) [SOT-23A]; Supplier 1: Digi-Key; Supplier Part Number 1: MCP1701AT-2502I/CB-ND; Supplier 2: Newark; Supplier Part Number 2: 88K5563; Supplier 3: Mouser; Supplier Part Number 3: 579-MCP1701AT2502ICB; Mounting Technology: Surface Mount; ComponentLink1Description: Manufacturer URL; ComponentLink1URL: http://www.microchip.com/; ComponentLink2Description: Datasheet; ComponentLink2URL: http://ww1.microchip.com/downloads/en/DeviceDoc/21991c.pdf; ComponentLink3Description: Package Specification; ComponentLink3URL: http://www.microchip.com/stellent/groups/techpub_sg/documents/packagingspec/en012702.pdf
footprint SOT-23A-CB3_N (SOT346, 3-Leads, Body 2.9x1.5mm, Pitch 0.95mm, Lead Span 2.6mm, IPC Medium Density)
footprint SOT-23A-CB3_L (SOT346, 3-Leads, Body 2.9x1.5mm, Pitch 0.95mm, Lead Span 2.6mm, IPC High Density)
footprint SOT-23A-CB3_M (SOT346, 3-Leads, Body 2.9x1.5mm, Pitch 0.95mm, Lead Span 2.6mm, IPC Low Density)
pins: 1 GND (power), 2 VOUT (power), 3 VIN (power)

## MCP1701AT-2502I/MB
designator U?
2 µA Low-Dropout Positive Voltage Regulator, 3-Pin SOT-89, Industrial Temperature, Tape and Reel; Manufacturer: Microchip; PartNumber: MCP1701AT-2502I/MB; DatasheetVersion: revC, Feb-2007; PackageVersion: revBB, Aug-2009; PackageReference: SOT-89-MB3; PackageDescription: 3-Lead Plastic Small Outline Transistor Header (MB) [SOT-89]; Supplier 1: Digi-Key; Supplier Part Number 1: MCP1701AT-2502I/MB-ND; Supplier 2: Mouser; Supplier Part Number 2: 579-MCP1701AT2502IMB; Mounting Technology: Surface Mount; Code_IPC: SOT89; ComponentLink1Description: Manufacturer URL; ComponentLink1URL: http://www.microchip.com/; ComponentLink2Description: Datasheet; ComponentLink2URL: http://ww1.microchip.com/downloads/en/DeviceDoc/21991c.pdf; ComponentLink3Description: Package Specification; ComponentLink3URL: http://www.microchip.com/stellent/groups/techpub_sg/documents/packagingspec/en012702.pdf
footprint SOT-89-MB3_N (SOT89, 3-Leads, Body 4.5x2.4 mm, Pitch 1.5mm, Lead Span 4.1mm, IPC Medium Density)
footprint SOT-89-MB3_L (SOT89, 3-Leads, Body 4.5x2.4 mm, Pitch 1.5mm, Lead Span 4.1mm, IPC High Density)
footprint SOT-89-MB3_M (SOT89, 3-Leads, Body 4.5x2.4 mm, Pitch 1.5mm, Lead Span 4.1mm, IPC Low Density)
pins: 1 GND (power), 2 VIN (power), 3 VOUT (power)

## MCP1701AT-3002I/CB
designator U?
2 µA Low-Dropout Positive Voltage Regulator, 3-Pin SOT-23A, Industrial Temperature, Tape and Reel; Manufacturer: Microchip; PartNumber: MCP1701AT-3002I/CB; DatasheetVersion: revC, Feb-2007; PackageVersion: revBB, Aug-2009; PackageReference: SOT-23A-CB3; PackageDescription: 3-Lead Plastic Small Outline Transistor (CB) [SOT-23A]; Supplier 1: Digi-Key; Supplier Part Number 1: MCP1701AT-3002I/CB-ND; Supplier 2: Newark; Supplier Part Number 2: 88K5565; Supplier 3: Mouser; Supplier Part Number 3: 579-MCP1701AT3002ICB; Mounting Technology: Surface Mount; ComponentLink1Description: Manufacturer URL; ComponentLink1URL: http://www.microchip.com/; ComponentLink2Description: Datasheet; ComponentLink2URL: http://ww1.microchip.com/downloads/en/DeviceDoc/21991c.pdf; ComponentLink3Description: Package Specification; ComponentLink3URL: http://www.microchip.com/stellent/groups/techpub_sg/documents/packagingspec/en012702.pdf
footprint SOT-23A-CB3_N (SOT346, 3-Leads, Body 2.9x1.5mm, Pitch 0.95mm, Lead Span 2.6mm, IPC Medium Density)
footprint SOT-23A-CB3_L (SOT346, 3-Leads, Body 2.9x1.5mm, Pitch 0.95mm, Lead Span 2.6mm, IPC High Density)
footprint SOT-23A-CB3_M (SOT346, 3-Leads, Body 2.9x1.5mm, Pitch 0.95mm, Lead Span 2.6mm, IPC Low Density)
pins: 1 GND (power), 2 VOUT (power), 3 VIN (power)

## MCP1701AT-3002I/MB
designator U?
2 µA Low-Dropout Positive Voltage Regulator, 3-Pin SOT-89, Industrial Temperature, Tape and Reel; Manufacturer: Microchip; PartNumber: MCP1701AT-3002I/MB; DatasheetVersion: revC, Feb-2007; PackageVersion: revBB, Aug-2009; PackageReference: SOT-89-MB3; PackageDescription: 3-Lead Plastic Small Outline Transistor Header (MB) [SOT-89]; Supplier 1: Digi-Key; Supplier Part Number 1: MCP1701AT-3002I/MB-ND; Supplier 2: Mouser; Supplier Part Number 2: 579-MCP1701AT3002IMB; Mounting Technology: Surface Mount; Code_IPC: SOT89; ComponentLink1Description: Manufacturer URL; ComponentLink1URL: http://www.microchip.com/; ComponentLink2Description: Datasheet; ComponentLink2URL: http://ww1.microchip.com/downloads/en/DeviceDoc/21991c.pdf; ComponentLink3Description: Package Specification; ComponentLink3URL: http://www.microchip.com/stellent/groups/techpub_sg/documents/packagingspec/en012702.pdf
footprint SOT-89-MB3_N (SOT89, 3-Leads, Body 4.5x2.4 mm, Pitch 1.5mm, Lead Span 4.1mm, IPC Medium Density)
footprint SOT-89-MB3_L (SOT89, 3-Leads, Body 4.5x2.4 mm, Pitch 1.5mm, Lead Span 4.1mm, IPC High Density)
footprint SOT-89-MB3_M (SOT89, 3-Leads, Body 4.5x2.4 mm, Pitch 1.5mm, Lead Span 4.1mm, IPC Low Density)
pins: 1 GND (power), 2 VIN (power), 3 VOUT (power)

## MCP1701AT-3302I/CB
designator U?
2 µA Low-Dropout Positive Voltage Regulator, 3-Pin SOT-23A, Industrial Temperature, Tape and Reel; Manufacturer: Microchip; PartNumber: MCP1701AT-3302I/CB; DatasheetVersion: revC, Feb-2007; PackageVersion: revBB, Aug-2009; PackageReference: SOT-23A-CB3; PackageDescription: 3-Lead Plastic Small Outline Transistor (CB) [SOT-23A]; Supplier 1: Digi-Key; Supplier Part Number 1: MCP1701AT-3302I/CBTR-ND; Supplier 2: Digi-Key; Supplier Part Number 2: MCP1701AT-3302I/CBCT-ND; Supplier 3: Digi-Key; Supplier Part Number 3: MCP1701AT-3302I/CBDKR-ND; Supplier 4: Farnell; Supplier Part Number 4: 1605554; Supplier 5: Farnell; Supplier Part Number 5: 1605554RL; Supplier 6: Newark; Supplier Part Number 6: 11N7985; Supplier 7: Mouser; Supplier Part Number 7: 579-MCP1701AT3302ICB; Mounting Technology: Surface Mount; ComponentLink1Description: Manufacturer URL; ComponentLink1URL: http://www.microchip.com/; ComponentLink2Description: Datasheet; ComponentLink2URL: http://ww1.microchip.com/downloads/en/DeviceDoc/21991c.pdf; ComponentLink3Description: Package Specification; ComponentLink3URL: http://www.microchip.com/stellent/groups/techpub_sg/documents/packagingspec/en012702.pdf
footprint SOT-23A-CB3_N (SOT346, 3-Leads, Body 2.9x1.5mm, Pitch 0.95mm, Lead Span 2.6mm, IPC Medium Density)
footprint SOT-23A-CB3_L (SOT346, 3-Leads, Body 2.9x1.5mm, Pitch 0.95mm, Lead Span 2.6mm, IPC High Density)
footprint SOT-23A-CB3_M (SOT346, 3-Leads, Body 2.9x1.5mm, Pitch 0.95mm, Lead Span 2.6mm, IPC Low Density)
pins: 1 GND (power), 2 VOUT (power), 3 VIN (power)

## MCP1701AT-3302I/MB
designator U?
2 µA Low-Dropout Positive Voltage Regulator, 3-Pin SOT-89, Industrial Temperature, Tape and Reel; Manufacturer: Microchip; PartNumber: MCP1701AT-3302I/MB; DatasheetVersion: revC, Feb-2007; PackageVersion: revBB, Aug-2009; PackageReference: SOT-89-MB3; PackageDescription: 3-Lead Plastic Small Outline Transistor Header (MB) [SOT-89]; Supplier 1: Digi-Key; Supplier Part Number 1: MCP1701AT-3302I/MBTR-ND; Supplier 2: Digi-Key; Supplier Part Number 2: MCP1701AT-3302I/MBCT-ND; Supplier 3: Digi-Key; Supplier Part Number 3: MCP1701AT-3302I/MBDKR-ND; Supplier 4: Farnell; Supplier Part Number 4: 1605555RL; Supplier 5: Farnell; Supplier Part Number 5: 1605555; Supplier 6: Newark; Supplier Part Number 6: 11N7986; Supplier 7: Mouser; Supplier Part Number 7: 579-MCP1701AT3302IMB; Mounting Technology: Surface Mount; Code_IPC: SOT89; ComponentLink1Description: Manufacturer URL; ComponentLink1URL: http://www.microchip.com/; ComponentLink2Description: Datasheet; ComponentLink2URL: http://ww1.microchip.com/downloads/en/DeviceDoc/21991c.pdf; ComponentLink3Description: Package Specification; ComponentLink3URL: http://www.microchip.com/stellent/groups/techpub_sg/documents/packagingspec/en012702.pdf
footprint SOT-89-MB3_N (SOT89, 3-Leads, Body 4.5x2.4 mm, Pitch 1.5mm, Lead Span 4.1mm, IPC Medium Density)
footprint SOT-89-MB3_L (SOT89, 3-Leads, Body 4.5x2.4 mm, Pitch 1.5mm, Lead Span 4.1mm, IPC High Density)
footprint SOT-89-MB3_M (SOT89, 3-Leads, Body 4.5x2.4 mm, Pitch 1.5mm, Lead Span 4.1mm, IPC Low Density)
pins: 1 GND (power), 2 VIN (power), 3 VOUT (power)

## MCP1701AT-3602I/MB
designator U?
2 µA Low-Dropout Positive Voltage Regulator, 3-Pin SOT-89, Industrial Temperature, Tape and Reel; Manufacturer: Microchip; PartNumber: MCP1701AT-3602I/MB; DatasheetVersion: revC, Feb-2007; PackageVersion: revBB, Aug-2009; PackageReference: SOT-89-MB3; PackageDescription: 3-Lead Plastic Small Outline Transistor Header (MB) [SOT-89]; Mounting Technology: Surface Mount; Code_IPC: SOT89; ComponentLink1Description: Manufacturer URL; ComponentLink1URL: http://www.microchip.com/; ComponentLink2Description: Datasheet; ComponentLink2URL: http://ww1.microchip.com/downloads/en/DeviceDoc/21991c.pdf; ComponentLink3Description: Package Specification; ComponentLink3URL: http://www.microchip.com/stellent/groups/techpub_sg/documents/packagingspec/en012702.pdf
footprint SOT-89-MB3_N (SOT89, 3-Leads, Body 4.5x2.4 mm, Pitch 1.5mm, Lead Span 4.1mm, IPC Medium Density)
footprint SOT-89-MB3_L (SOT89, 3-Leads, Body 4.5x2.4 mm, Pitch 1.5mm, Lead Span 4.1mm, IPC High Density)
footprint SOT-89-MB3_M (SOT89, 3-Leads, Body 4.5x2.4 mm, Pitch 1.5mm, Lead Span 4.1mm, IPC Low Density)
pins: 1 GND (power), 2 VIN (power), 3 VOUT (power)

## MCP1701AT-4002I/CB
designator U?
2 uA Low Droput Positive Voltage Regulator, -40 to 85 degC, 3-pin SOT-23A (CB3), Tape and Reel; Manufacturer: Microchip; PartNumber: MCP1701AT-4002I/CB; DatasheetVersion: Rev. B; PackageVersion: C04-130B; PackageReference: SOT-23A-CB3; PackageDescription: 3-Lead Plastic Small Outline Transistor, 2.9 x 1.5 mm Body, 0.95 mm Pitch; Mounting Technology: Surface Mount; ComponentLink1Description: Manufacturer URL; ComponentLink1URL: http://www.microchip.com; ComponentLink2Description: Datasheet; ComponentLink2URL: http://ww1.microchip.com/downloads/en/DeviceDoc/21874b.pdf; ComponentLink3Description: Package Specification; ComponentLink3URL: http://www.microchip.com/stellent/groups/techpub_sg/documents/packagingspec/en012702.pdf; ComponentLink4Description: Product URL; ComponentLink4URL: http://www.microchip.com/MCP1701
footprint MCHP-SOT-23A-CB3_N (SOT23, 3-Leads, Body 2.9x1.5mm, Pitch 0.95mm, IPC Medium Density)
footprint MCHP-SOT-23A-CB3_L (SOT23, 3-Leads, Body 2.9x1.5mm, Pitch 0.95mm, IPC High Density)
footprint MCHP-SOT-23A-CB3_M (SOT23, 3-Leads, Body 2.9x1.5mm, Pitch 0.95mm, IPC Low Density)
pins: 1 GND (power) "Ground Terminal", 2 VOUT (power) "Regulated Output Voltage", 3 VIN (power) "Unregulated Input Voltage"

## MCP1701AT-4002I/MB
designator U?
2 µA Low-Dropout Positive Voltage Regulator, 3-Pin SOT-89, Industrial Temperature, Tape and Reel; Manufacturer: Microchip; PartNumber: MCP1701AT-4002I/MB; DatasheetVersion: revC, Feb-2007; PackageVersion: revBB, Aug-2009; PackageReference: SOT-89-MB3; PackageDescription: 3-Lead Plastic Small Outline Transistor Header (MB) [SOT-89]; Mounting Technology: Surface Mount; Code_IPC: SOT89; ComponentLink1Description: Manufacturer URL; ComponentLink1URL: http://www.microchip.com/; ComponentLink2Description: Datasheet; ComponentLink2URL: http://ww1.microchip.com/downloads/en/DeviceDoc/21991c.pdf; ComponentLink3Description: Package Specification; ComponentLink3URL: http://www.microchip.com/stellent/groups/techpub_sg/documents/packagingspec/en012702.pdf
footprint SOT-89-MB3_N (SOT89, 3-Leads, Body 4.5x2.4 mm, Pitch 1.5mm, Lead Span 4.1mm, IPC Medium Density)
footprint SOT-89-MB3_L (SOT89, 3-Leads, Body 4.5x2.4 mm, Pitch 1.5mm, Lead Span 4.1mm, IPC High Density)
footprint SOT-89-MB3_M (SOT89, 3-Leads, Body 4.5x2.4 mm, Pitch 1.5mm, Lead Span 4.1mm, IPC Low Density)
pins: 1 GND (power), 2 VIN (power), 3 VOUT (power)

## MCP1701AT-4602I/MB
designator U?
2 µA Low-Dropout Positive Voltage Regulator, 3-Pin SOT-89, Industrial Temperature, Tape and Reel; Manufacturer: Microchip; PartNumber: MCP1701AT-4602I/MB; DatasheetVersion: revC, Feb-2007; PackageVersion: revBB, Aug-2009; PackageReference: SOT-89-MB3; PackageDescription: 3-Lead Plastic Small Outline Transistor Header (MB) [SOT-89]; Supplier 1: Digi-Key; Supplier Part Number 1: MCP1701AT-4602I/MB-ND; Supplier 2: Mouser; Supplier Part Number 2: 579-MCP1701AT4602IMB; Mounting Technology: Surface Mount; Code_IPC: SOT89; ComponentLink1Description: Manufacturer URL; ComponentLink1URL: http://www.microchip.com/; ComponentLink2Description: Datasheet; ComponentLink2URL: http://ww1.microchip.com/downloads/en/DeviceDoc/21991c.pdf; ComponentLink3Description: Package Specification; ComponentLink3URL: http://www.microchip.com/stellent/groups/techpub_sg/documents/packagingspec/en012702.pdf
footprint SOT-89-MB3_N (SOT89, 3-Leads, Body 4.5x2.4 mm, Pitch 1.5mm, Lead Span 4.1mm, IPC Medium Density)
footprint SOT-89-MB3_L (SOT89, 3-Leads, Body 4.5x2.4 mm, Pitch 1.5mm, Lead Span 4.1mm, IPC High Density)
footprint SOT-89-MB3_M (SOT89, 3-Leads, Body 4.5x2.4 mm, Pitch 1.5mm, Lead Span 4.1mm, IPC Low Density)
pins: 1 GND (power), 2 VIN (power), 3 VOUT (power)

## MCP1701AT-5002I/CB
designator U?
2 µA Low-Dropout Positive Voltage Regulator, 3-Pin SOT-23A, Industrial Temperature, Tape and Reel; Manufacturer: Microchip; PartNumber: MCP1701AT-5002I/CB; DatasheetVersion: revC, Feb-2007; PackageVersion: revBB, Aug-2009; PackageReference: SOT-23A-CB3; PackageDescription: 3-Lead Plastic Small Outline Transistor (CB) [SOT-23A]; Supplier 1: Digi-Key; Supplier Part Number 1: MCP1701AT-5002I/CBTR-ND; Supplier 2: Digi-Key; Supplier Part Number 2: MCP1701AT-5002I/CBCT-ND; Supplier 3: Digi-Key; Supplier Part Number 3: MCP1701AT-5002I/CBDKR-ND; Supplier 4: Farnell; Supplier Part Number 4: 1605556RL; Supplier 5: Farnell; Supplier Part Number 5: 1605556; Supplier 6: Newark; Supplier Part Number 6: 11N7987; Supplier 7: Mouser; Supplier Part Number 7: 579-MCP1701AT5002ICB; Mounting Technology: Surface Mount; ComponentLink1Description: Manufacturer URL; ComponentLink1URL: http://www.microchip.com/; ComponentLink2Description: Datasheet; ComponentLink2URL: http://ww1.microchip.com/downloads/en/DeviceDoc/21991c.pdf; ComponentLink3Description: Package Specification; ComponentLink3URL: http://www.microchip.com/stellent/groups/techpub_sg/documents/packagingspec/en012702.pdf
footprint SOT-23A-CB3_N (SOT346, 3-Leads, Body 2.9x1.5mm, Pitch 0.95mm, Lead Span 2.6mm, IPC Medium Density)
footprint SOT-23A-CB3_L (SOT346, 3-Leads, Body 2.9x1.5mm, Pitch 0.95mm, Lead Span 2.6mm, IPC High Density)
footprint SOT-23A-CB3_M (SOT346, 3-Leads, Body 2.9x1.5mm, Pitch 0.95mm, Lead Span 2.6mm, IPC Low Density)
pins: 1 GND (power), 2 VOUT (power), 3 VIN (power)